# Altium footprint library Fuse.PcbLib: 2 footprints
Each footprint in its own frame and in the unit in brackets; x right, y up, seen from the top. Pads: shape width x height; smd on the part's side, far side on the other; paste and mask are expansions set on the pad; w line width, h text height; cw(c..) or ccw(c..) is an arc to the next point about the centre after c.
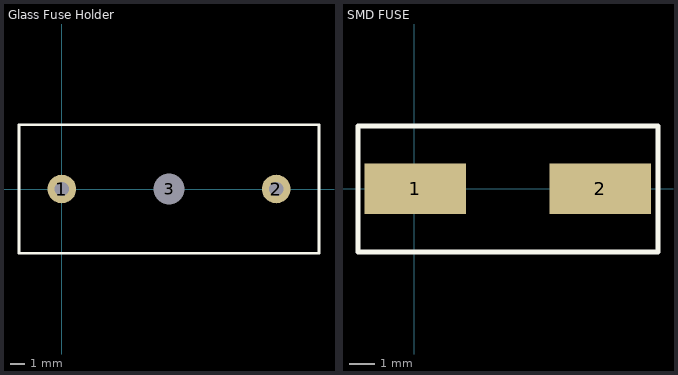
[diagram p0: the footprints below, top view; thin cyan lines are the x and y axes]

## Glass Fuse Holder [mm]
pads (3):
  round 2 hole 1: 1(0,0) 2(15,0)
  round 1.5 hole 2.2: 3(7.5,0)
Top Overlay:
  lines w0.2: -3,-4.5 -3,4.5 18,4.5 18,-4.5 -3,-4.5
3D body: height 11.16, standoff -4.7, extent -4.431,-4.476 19.569,4.606

## SMD FUSE [mm]
pads (2):
  rect 4x2 smd: 1(0.025,0) 2(7.325,0)
Top Overlay:
  lines w0.2: -2.225,-2.5 -2.225,2.475 9.6,2.475 9.6,-2.5 -2.225,-2.5
3D body: height 3.71, standoff 0.01, extent -1.175,-2.525 8.525,2.475